# EAGLE library part MAX1818 (library ime)
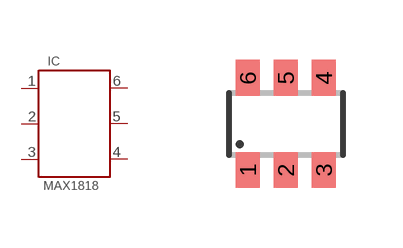
[diagram p0: symbol with the pads of SOT23-6; footprint SOT23-6]

Designator prefix IC

## MAX1818  [SOT23-6]
1  IN  pwr
2  POK
3  SHDN'  in
4  GND  pwr
5  SET
6  OUT  pwr

## Footprint SOT23-6 (pad centres in mm)
smd 0.6 x 0.9: 1 -0.95,-1.15; 2 0,-1.15; 3 0.95,-1.15; 4 0.95,1.15; 5 0,1.15; 6 -0.95,1.15